# EAGLE library part CLV0910B-LF (library rfops)
ZCOMM VCO CLV0910B-LF
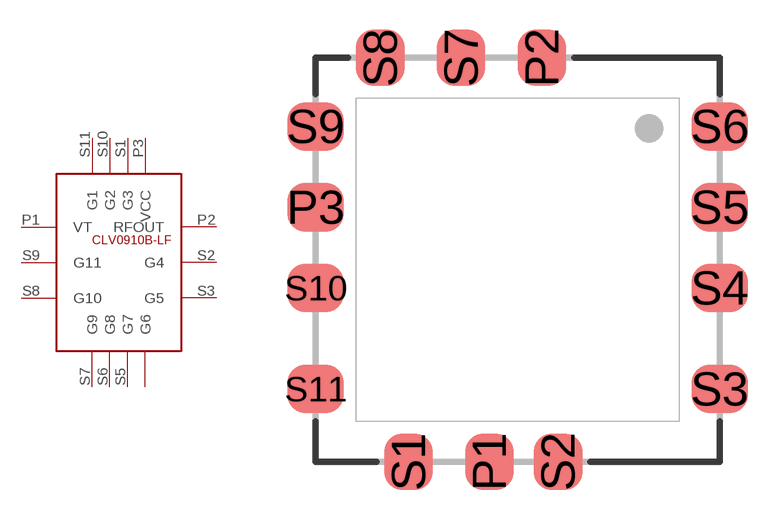
[diagram p15: symbol with the pads of MINI-14S; footprint MINI-14S]

Designator prefix VCO

## CLV0910B-LF  [MINI-14S]
P1  VT  in
P2  RFOUT  out
P3  VCC  pwr
S1  G3  pwr
S2  G4  pwr
S3  G5  pwr
S4  G6
S5  G7  pwr
S6  G8  pwr
S7  G9  pwr
S8  G10  pwr
S9  G11  pwr
S10  G2  pwr
S11  G1  pwr

## Footprint MINI-14S (pad centres in mm)
ZCOMM VCO Package
smd 1.524 x 1.778: P1 -0.889,-6.35; P2 0.762,6.35; S1 -3.429,-6.35; S2 1.27,-6.35; S7 -1.778,6.35; S8 -4.318,6.35
smd 1.778 x 1.524: P3 -6.35,1.651; S3 6.35,-4.064; S4 6.35,-0.889; S5 6.35,1.651; S6 6.35,4.191; S9 -6.35,4.191; S10 -6.35,-0.889; S11 -6.35,-4.064